# Altium footprint library MR5FT20L0.PcbLib: 1 footprints
Each footprint in its own frame and in the unit in brackets; x right, y up, seen from the top. Pads: shape width x height; smd on the part's side, far side on the other; paste and mask are expansions set on the pad; w line width, h text height; cw(c..) or ccw(c..) is an arc to the next point about the centre after c.
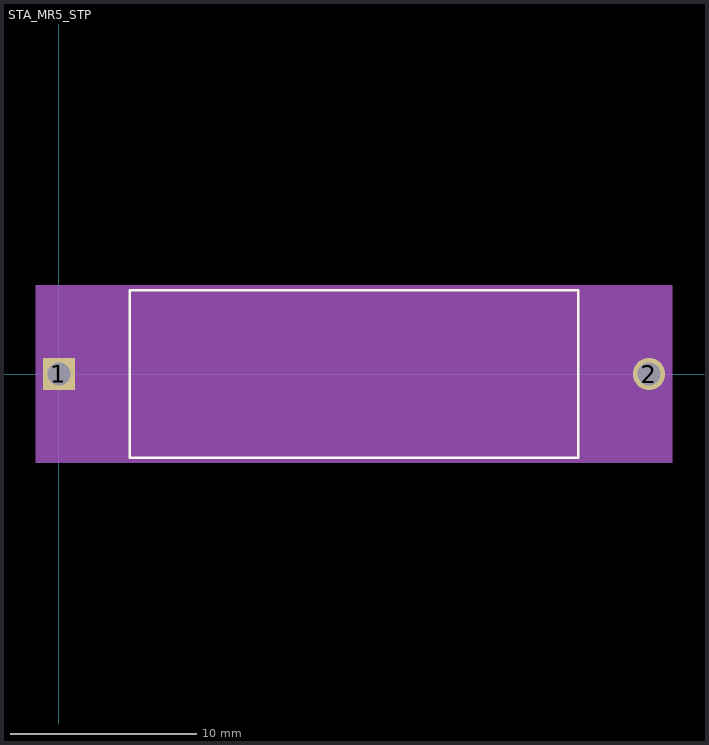
[diagram p0: the footprint, top view; thin cyan lines are the x and y axes]

## STA_MR5_STP [mil]
pads (2):
  rect 68x68 hole 48 mask+0: 1(0,0)
  round 68 hole 48 mask+0: 2(1250,0)
Top Overlay:
  lines w6: 150,-177.5 1100,-177.5 1100,177.5 150,177.5 150,-177.5
Mechanical 5:
  region: 1299,-187.5 -49,-187.5 -49,187.5 1299,187.5
Mechanical 13:
  lines w1: 0,0 155,0 ; 1095,0 1250,0 ; 155,-172.5 1095,-172.5 1095,172.5 155,172.5 155,-172.5
Mechanical 15:
  region: 145,-44 -44,-44 -44,44 145,44 145,182.5 1105,182.5 1105,44 1294,44 1294,-44 1105,-44 1105,-182.5 145,-182.5
  lines w6: -44,-44 -44,44 145,44 145,182.5 1105,182.5 1105,44 1294,44 1294,-44 1105,-44 1105,-182.5 145,-182.5 145,-44 -44,-44
3D body "STA_MR5_STP.step": height 344.4, standoff -110, extent -19.02,-172.34 1269.02,172.34